# EAGLE library part 4024 (library 40xxDIN)
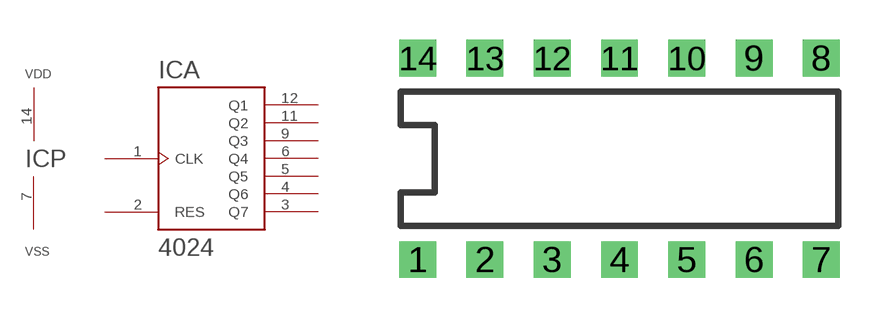
[diagram p14: symbol with the pads of DIL14; footprint DIL14]

Designator prefix IC; gates A=4024 P=PWRN

## 4024  [DIL14]
1  A:CLK  in
2  A:RES  in
3  A:Q7  out
4  A:Q6  out
5  A:Q5  out
6  A:Q4  out
7  P:VSS  pwr
9  A:Q3  out
11  A:Q2  out
12  A:Q1  out
14  P:VDD  pwr

## Footprint DIL14 (pad centres in mm)
drill 0.8 pad 1.397 square: 1 0,0; 2 2.54,0; 3 5.08,0; 4 7.62,0; 5 10.16,0; 6 12.7,0; 7 15.24,0; 8 15.24,7.62; 9 12.7,7.62; 10 10.16,7.62; 11 7.62,7.62; 12 5.08,7.62; 13 2.54,7.62; 14 0,7.62